# EAGLE library part MSP430_F5529_BOOSTERPACK (library mr_dr_prof_bolt)
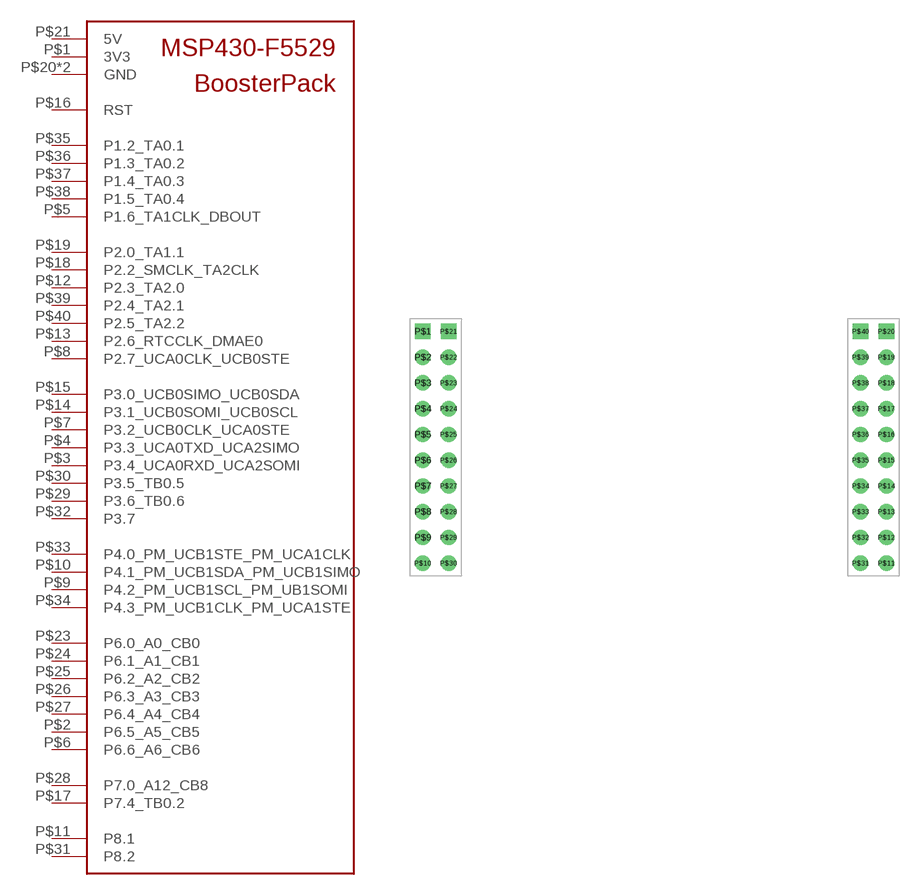
[diagram p0: symbol with the pads of LAUNCHPAD_40PIN; footprint LAUNCHPAD_40PIN]

Designator prefix -

## MSP430_F5529_BOOSTERPACK  [LAUNCHPAD_40PIN]
P$1  3V3
P$2  P6.5_A5_CB5
P$3  P3.4_UCA0RXD_UCA2SOMI
P$4  P3.3_UCA0TXD_UCA2SIMO
P$5  P1.6_TA1CLK_DBOUT
P$6  P6.6_A6_CB6
P$7  P3.2_UCB0CLK_UCA0STE
P$8  P2.7_UCA0CLK_UCB0STE
P$9  P4.2_PM_UCB1SCL_PM_UB1SOMI
P$10  P4.1_PM_UCB1SDA_PM_UCB1SIMO
P$11  P8.1
P$12  P2.3_TA2.0
P$13  P2.6_RTCCLK_DMAE0
P$14  P3.1_UCB0SOMI_UCB0SCL
P$15  P3.0_UCB0SIMO_UCB0SDA
P$16  RST
P$17  P7.4_TB0.2
P$18  P2.2_SMCLK_TA2CLK
P$19  P2.0_TA1.1
P$20  GND
P$21  5V
P$22  GND
P$23  P6.0_A0_CB0
P$24  P6.1_A1_CB1
P$25  P6.2_A2_CB2
P$26  P6.3_A3_CB3
P$27  P6.4_A4_CB4
P$28  P7.0_A12_CB8
P$29  P3.6_TB0.6
P$30  P3.5_TB0.5
P$31  P8.2
P$32  P3.7
P$33  P4.0_PM_UCB1STE_PM_UCA1CLK
P$34  P4.3_PM_UCB1CLK_PM_UCA1STE
P$35  P1.2_TA0.1
P$36  P1.3_TA0.2
P$37  P1.4_TA0.3
P$38  P1.5_TA0.4
P$39  P2.4_TA2.1
P$40  P2.5_TA2.2

## Footprint LAUNCHPAD_40PIN (pad centres in mm)
drill 1 square: P$1 0,22.86; P$20 45.72,22.86; P$21 2.54,22.86; P$40 43.18,22.86
drill 1: P$2 0,20.32; P$3 0,17.78; P$4 0,15.24; P$5 0,12.7; P$6 0,10.16; P$7 0,7.62; P$8 0,5.08; P$9 0,2.54; P$10 0,0; P$11 45.72,0; P$12 45.72,2.54; P$13 45.72,5.08; P$14 45.72,7.62; P$15 45.72,10.16; P$16 45.72,12.7; P$17 45.72,15.24; P$18 45.72,17.78; P$19 45.72,20.32; P$22 2.54,20.32; P$23 2.54,17.78; P$24 2.54,15.24; P$25 2.54,12.7; P$26 2.54,10.16; P$27 2.54,7.62; P$28 2.54,5.08; P$29 2.54,2.54; P$30 2.54,0; P$31 43.18,0; P$32 43.18,2.54; P$33 43.18,5.08; P$34 43.18,7.62; P$35 43.18,10.16; P$36 43.18,12.7; P$37 43.18,15.24; P$38 43.18,17.78; P$39 43.18,20.32